# Altium integrated library XRCHA16M000F0A01R0.IntLib: 1 symbol
Pins are listed as number, name and electrical type; pins without a type are passive.

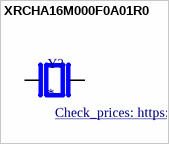
[diagram p0: symbol XRCHA16M000F0A01R0]

## XRCHA16M000F0A01R0
designator Y?
16MHz Â±100ppm Crystal 8pF 100 Ohms 2-SMD, No Lead; MP: XRCHA16M000F0A01R0; MF: Murata; DigiKey-Purchase-URL: https://snapeda.com/shop?store=DigiKey&id=4970146; SnapEDA_Link: https://www.snapeda.com/parts/XRCHA16M000F0A01R0/Murata/view-part/4970146/?ref=snap; Arrow_Electronics-Purchase-URL: https://snapeda.com/shop?store=Arrow+Electronics&id=4970146; Availability: Good; Mouser-Purchase-URL: https://snapeda.com/shop?store=Mouser&id=4970146; Package: SMD-2 Murata; Value: *; Price: None; Check_prices: https://www.snapeda.com/parts/XRCHA16M000F0A01R0/Murata/view-part/4970146/?ref=eda
footprint OSC_XRCHA16M000F0A01R0
pins: 1, 2